# Altium integrated library Infineon_Microcontroller.IntLib: 721 symbols (part 14 of 66)
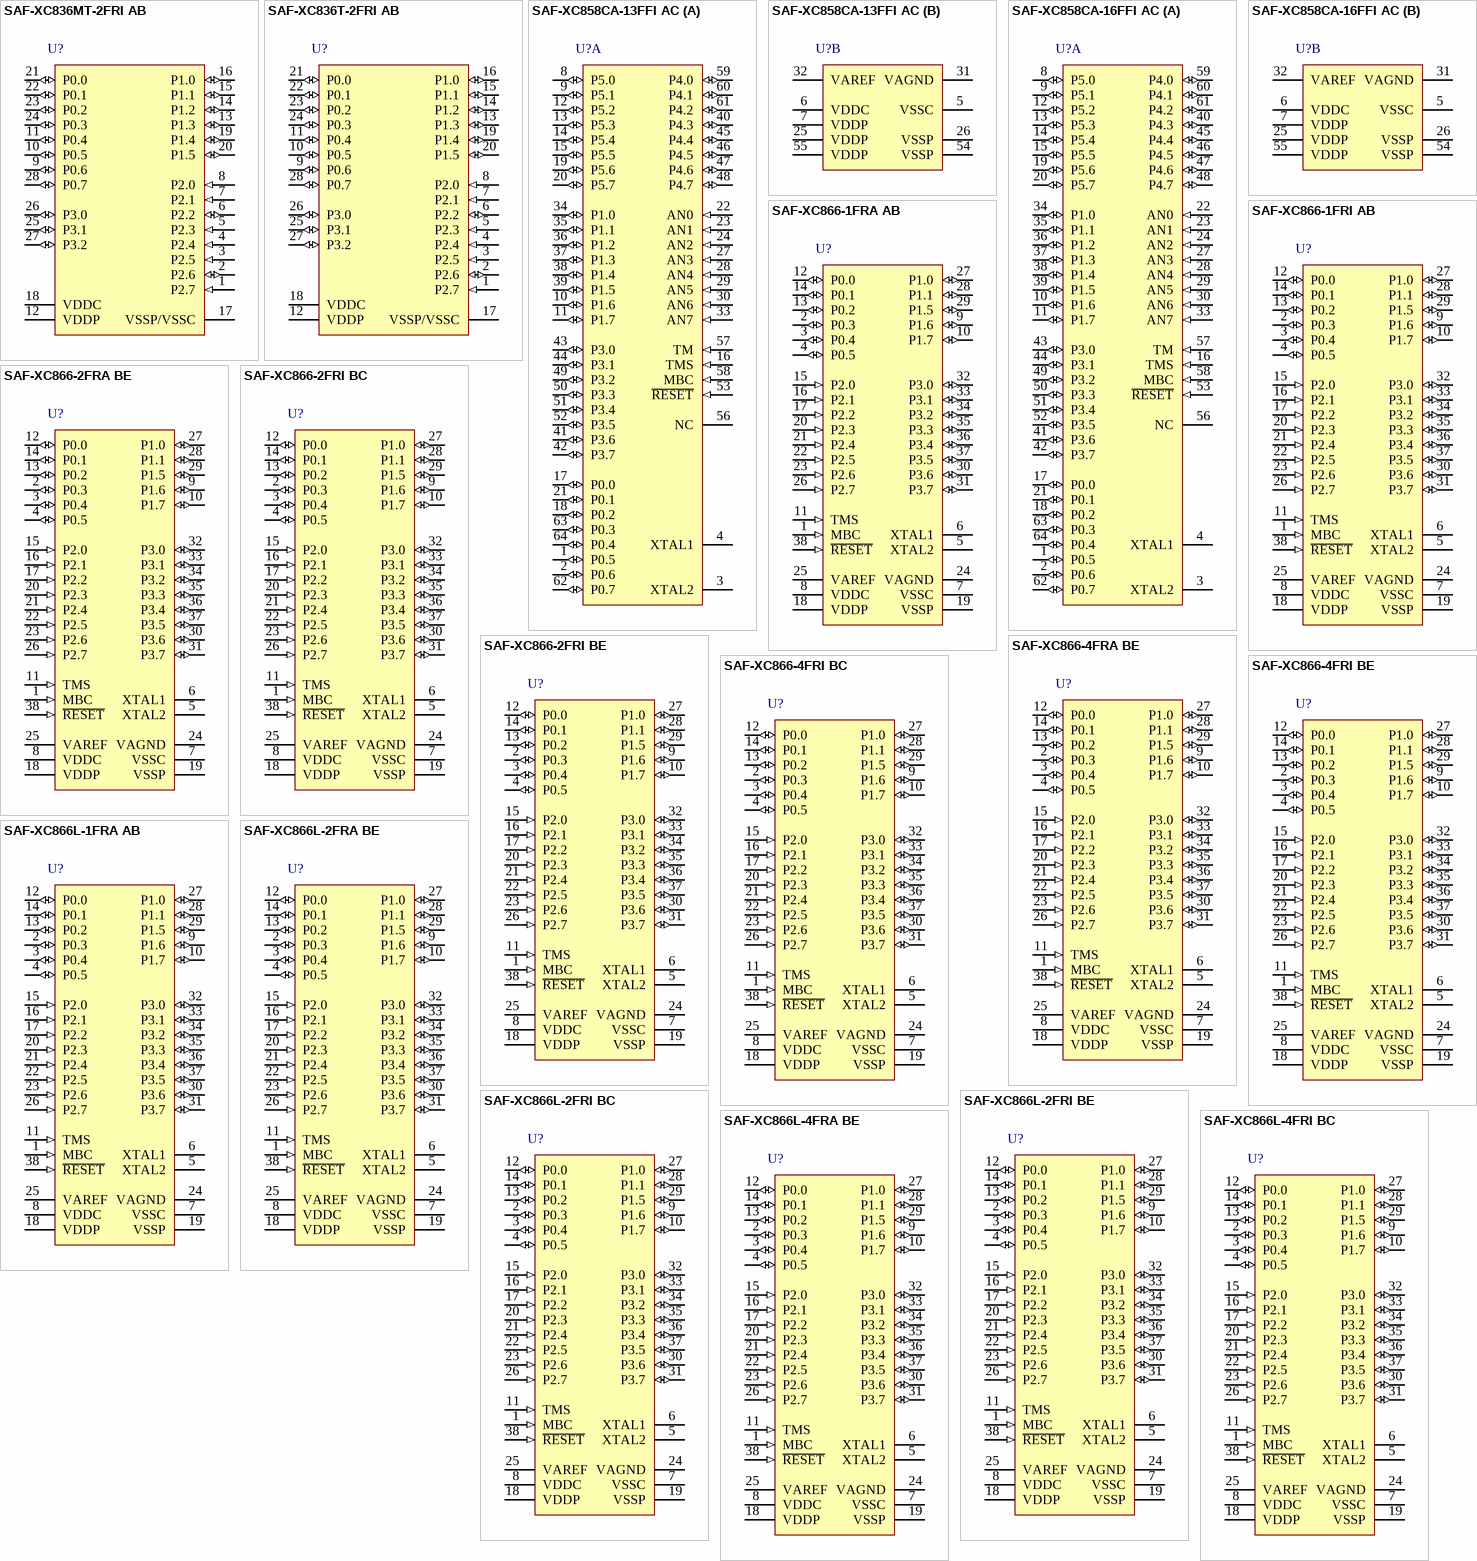
[diagram p131: symbols SAF-XC836MT-2FRI AB to SAF-XC866L-4FRI BC]

## SAF-XC866-4FRI BC
designator U?
26.67 MHz XC800 MCU with 16 KByte Program Memory, 0.75 KByte SRAM, -40 to 85 degC, PG-TSSOP-38-4, Green; Manufacturer: Infineon; PartNumber: SAF-XC866-4FRI BC; A / D input lines (incl. FADC): 8; CAN Nodes: 0; Green: TRUE; Packing: Reel; DatasheetVersion: Rev. 1.2; PackageVersion: V1.2, 10/2007; PackageReference: PG-TSSOP-38-4; PackageDescription: 38-Pin Plastic (Green) Thin Shrink Small Outline Package, Body 9.7 x 4.4 mm, Pitch 0.5 mm; Supplier 1: Digi-Key; Supplier Part Number 1: SAF-XC866-4FRIBCINTR-ND; Supplier 2: Digi-Key; Supplier Part Number 2: SAF-XC866-4FRIBCINCT-ND; Supplier 3: Digi-Key; Supplier Part Number 3: SAF-XC866-4FRIBCINDKR-ND; Halogen-free: FALSE; Max Clock Frequency: 26.67 MHz; Program Memory: 16 KByte; SRAM (incl. Cache): 0.75 KByte; Mounting Technology: Surface Mount; ComponentLink1Description: Manufacturer URL; ComponentLink1URL: http://www.infineon.com/; ComponentLink2Description: Datasheet; ComponentLink2URL: http://www.infineon.com/dgdl/XC866_ds_v12.pdf?folderId=db3a304412b407950112b408e8c90004&fileId=db3a304412b407950112b4198e7528a5; ComponentLink3Description: Package Specification; ComponentLink3URL: http://www.infineon.com/dgdl/XC866_ds_v12.pdf?folderId=db3a304412b407950112b408e8c90004&fileId=db3a304412b407950112b4198e7528a5&sId=db3a30433d956bc3013da013eedc2925
footprint INF-PG-TSSOP-38-4_N (SOP, 38-Leads, Body 9.7x4.4mm, Pitch 0.5mm, IPC Medium Density)
footprint INF-PG-TSSOP-38-4_L (SOP, 38-Leads, Body 9.7x4.4mm, Pitch 0.5mm, IPC High Density)
footprint INF-PG-TSSOP-38-4_M (SOP, 38-Leads, Body 9.7x4.4mm, Pitch 0.5mm, IPC Low Density)
pins: 1 MBC (in) "Monitor & BootStrap Loader Control", 2 P0.3 (io), 3 P0.4 (io), 4 P0.5 (io), 5 XTAL2 "External Oscillator Output (NC if not needed)", 6 XTAL1 "External Oscillator Input (NC if not needed)", 7 VSSC (power) "Core Supply Ground", 8 VDDC (power) "Core Supply Monitor (2.5 V)", 9 P1.6 (io), 10 P1.7 (io), 11 TMS (in) "Test Mode Select", 12 P0.0 (io), 13 P0.2 (io), 14 P0.1 (io), 15 P2.0 (in), 16 P2.1 (in), 17 P2.2 (in), 18 VDDP (power) "I/O Port Supply (3.3 V/5.0 V) Also used by EVR and analog modules.", 19 VSSP (power) "I/O Port Ground", 20 P2.3 (in), 21 P2.4 (in), 22 P2.5 (in), 23 P2.6 (in), 24 VAGND (power) "ADC Reference Ground", 25 VAREF (power) "ADC Reference Voltage", 26 P2.7 (in), 27 P1.0 (io), 28 P1.1 (io), 29 P1.5 (io), 30 P3.6 (io), 31 P3.7 (io), 32 P3.0 (io), 33 P3.1 (io), 34 P3.2 (io), 35 P3.3 (io), 36 P3.4 (io), 37 P3.5 (io), 38 ~{RESET} (in) "Reset Input"

## SAF-XC866-4FRI BE
designator U?
26.67 MHz XC800-Industrail MCU with 16 KByte Program Memory, 0.75 KByte SRAM, 5 V, -40 to 85 degC, PG-TSSOP-38, Reel, Green; Manufacturer: Infineon; PartNumber: SAF-XC866-4FRI BE; A / D input lines (incl. FADC): 8; CAN Nodes: 0; Digital I/O Lines: 27; DSP functionality (e.g MDU/MAC): FALSE; E2PROM Emulation (Data-Flash): TRUE; I/O Operation Voltages: 5 V; LIN BSL loader (for fast Flash programming): FALSE; Number of ADC Modules: 1; Power Modes: 4; Serial I/O Interfaces: 2; Timer / Counter: 3; Type of Memory: Flash; Type of Serial I/O Interfaces: UART(1), SSC(1); DatasheetVersion: Rev. 1.2; PackageVersion: V1.2, 10/2007; PackageReference: PG-TSSOP-38-4; PackageDescription: 38-Pin Plastic (Green) Thin Shrink Small Outline Package, Body 9.7 x 4.4 mm, Pitch 0.5 mm; Supplier 1: Digi-Key; Supplier Part Number 1: SAF-XC866-4FRI BE-ND; DMA Channels: 0; Green: TRUE; Halogen-free: TRUE; Instruction width [bits]: 8; Max Clock Frequency: 26.67 MHz; On-chip clock generation: TRUE; On-chip Voltage Regulator: TRUE; Oscillator Watchdog: TRUE; Packing: Reel; Program Memory: 16 KByte; SRAM (incl. Cache): 0.75 KByte; Timed I/O Pins (PWM-Ch,CAPCOM): 4; Watchdog Timer: TRUE; Mounting Technology: Surface Mount; ComponentLink1Description: Manufacturer URL; ComponentLink1URL: http://www.infineon.com/; ComponentLink2Description: Datasheet; ComponentLink2URL: http://www.infineon.com/dgdl/XC866_ds_v12.pdf?folderId=db3a304412b407950112b408e8c90004&fileId=db3a304412b407950112b4198e7528a5; ComponentLink3Description: Package Specification; ComponentLink3URL: http://www.infineon.com/dgdl/XC866_ds_v12.pdf?folderId=db3a304412b407950112b408e8c90004&fileId=db3a304412b407950112b4198e7528a5&sId=db3a30433d956bc3013da013eedc2925
footprint INF-PG-TSSOP-38-4_N (SOP, 38-Leads, Body 9.7x4.4mm, Pitch 0.5mm, IPC Medium Density)
footprint INF-PG-TSSOP-38-4_L (SOP, 38-Leads, Body 9.7x4.4mm, Pitch 0.5mm, IPC High Density)
footprint INF-PG-TSSOP-38-4_M (SOP, 38-Leads, Body 9.7x4.4mm, Pitch 0.5mm, IPC Low Density)
pins: 1 MBC (in) "Monitor & BootStrap Loader Control", 2 P0.3 (io), 3 P0.4 (io), 4 P0.5 (io), 5 XTAL2 "External Oscillator Output (NC if not needed)", 6 XTAL1 "External Oscillator Input (NC if not needed)", 7 VSSC (power) "Core Supply Ground", 8 VDDC (power) "Core Supply Monitor (2.5 V)", 9 P1.6 (io), 10 P1.7 (io), 11 TMS (in) "Test Mode Select", 12 P0.0 (io), 13 P0.2 (io), 14 P0.1 (io), 15 P2.0 (in), 16 P2.1 (in), 17 P2.2 (in), 18 VDDP (power) "I/O Port Supply (3.3 V/5.0 V) Also used by EVR and analog modules.", 19 VSSP (power) "I/O Port Ground", 20 P2.3 (in), 21 P2.4 (in), 22 P2.5 (in), 23 P2.6 (in), 24 VAGND (power) "ADC Reference Ground", 25 VAREF (power) "ADC Reference Voltage", 26 P2.7 (in), 27 P1.0 (io), 28 P1.1 (io), 29 P1.5 (io), 30 P3.6 (io), 31 P3.7 (io), 32 P3.0 (io), 33 P3.1 (io), 34 P3.2 (io), 35 P3.3 (io), 36 P3.4 (io), 37 P3.5 (io), 38 ~{RESET} (in) "Reset Input"

## SAF-XC866L-1FRA AB
designator U?
26.67 MHz XC800-Automotive MCU with 4 KByte Program Memory, 0.75 KByte SRAM, 5 V, 3.3 V, PG-TSSOP-38, Reel, Green; Manufacturer: Infineon; PartNumber: SAF-XC866L-1FRA AB; A / D input lines (incl. FADC): 8; CAN Nodes: 0; Digital I/O Lines: 27; DSP functionality (e.g MDU/MAC): FALSE; E2PROM Emulation (Data-Flash): TRUE; I/O Operation Voltages: 5 V 3.3 V; LIN BSL loader (for fast Flash programming): FALSE; Number of ADC Modules: 1; Power Modes: 4; Program Memory: 4 KByte; Serial I/O Interfaces: 2; Timer / Counter: 3; Type of Memory: Flash; Type of Serial I/O Interfaces: UART(1), SSC(1); DatasheetVersion: Rev. 1.2; PackageVersion: V1.2, 10/2007; PackageReference: PG-TSSOP-38-4; PackageDescription: 38-Pin Plastic (Green) Thin Shrink Small Outline Package, Body 9.7 x 4.4 mm, Pitch 0.5 mm; Supplier 1: Digi-Key; Supplier Part Number 1: SAF-XC866L-1FRA AB-ND; DMA Channels: 0; Green: TRUE; Halogen-free: available; Instruction width [bits]: 8; Max Clock Frequency: 26.67 MHz; On-chip clock generation: TRUE; On-chip Voltage Regulator: TRUE; Oscillator Watchdog: TRUE; Real Time Clock (RTC): FALSE; SRAM (incl. Cache): 0.75 KByte; Timed I/O Pins (PWM-Ch,CAPCOM): 4; Watchdog Timer: TRUE; Mounting Technology: Surface Mount; ComponentLink1Description: Manufacturer URL; ComponentLink1URL: http://www.infineon.com/; ComponentLink2Description: Datasheet; ComponentLink2URL: http://www.infineon.com/dgdl/XC866_ds_v12.pdf?folderId=db3a304412b407950112b408e8c90004&fileId=db3a304412b407950112b4198e7528a5; ComponentLink3Description: Package Specification; ComponentLink3URL: http://www.infineon.com/dgdl/XC866_ds_v12.pdf?folderId=db3a304412b407950112b408e8c90004&fileId=db3a304412b407950112b4198e7528a5&sId=db3a30433d956bc3013da013eedc2925
footprint INF-PG-TSSOP-38-4_N (SOP, 38-Leads, Body 9.7x4.4mm, Pitch 0.5mm, IPC Medium Density)
footprint INF-PG-TSSOP-38-4_L (SOP, 38-Leads, Body 9.7x4.4mm, Pitch 0.5mm, IPC High Density)
footprint INF-PG-TSSOP-38-4_M (SOP, 38-Leads, Body 9.7x4.4mm, Pitch 0.5mm, IPC Low Density)
pins: 1 MBC (in) "Monitor & BootStrap Loader Control", 2 P0.3 (io), 3 P0.4 (io), 4 P0.5 (io), 5 XTAL2 "External Oscillator Output (NC if not needed)", 6 XTAL1 "External Oscillator Input (NC if not needed)", 7 VSSC (power) "Core Supply Ground", 8 VDDC (power) "Core Supply Monitor (2.5 V)", 9 P1.6 (io), 10 P1.7 (io), 11 TMS (in) "Test Mode Select", 12 P0.0 (io), 13 P0.2 (io), 14 P0.1 (io), 15 P2.0 (in), 16 P2.1 (in), 17 P2.2 (in), 18 VDDP (power) "I/O Port Supply (3.3 V/5.0 V) Also used by EVR and analog modules.", 19 VSSP (power) "I/O Port Ground", 20 P2.3 (in), 21 P2.4 (in), 22 P2.5 (in), 23 P2.6 (in), 24 VAGND (power) "ADC Reference Ground", 25 VAREF (power) "ADC Reference Voltage", 26 P2.7 (in), 27 P1.0 (io), 28 P1.1 (io), 29 P1.5 (io), 30 P3.6 (io), 31 P3.7 (io), 32 P3.0 (io), 33 P3.1 (io), 34 P3.2 (io), 35 P3.3 (io), 36 P3.4 (io), 37 P3.5 (io), 38 ~{RESET} (in) "Reset Input"

## SAF-XC866L-2FRA BE
designator U?
26.67 MHz XC800-Automotive MCU with 8 KByte Program Memory, 0.75 KByte SRAM, 5 V, PG-TSSOP-38, Reel, Green; Manufacturer: Infineon; PartNumber: SAF-XC866L-2FRA BE; A / D input lines (incl. FADC): 8; CAN Nodes: 0; Digital I/O Lines: 27; DSP functionality (e.g MDU/MAC): FALSE; E2PROM Emulation (Data-Flash): TRUE; I/O Operation Voltages: 5 V; Number of ADC Modules: 1; Power Modes: 4; Program Memory: 8 KByte; Serial I/O Interfaces: 2; Timer / Counter: 3; Type of Memory: Flash; Type of Serial I/O Interfaces: UART(1), SSC(1); DatasheetVersion: Rev. 1.2; PackageVersion: V1.2, 10/2007; PackageReference: PG-TSSOP-38-4; PackageDescription: 38-Pin Plastic (Green) Thin Shrink Small Outline Package, Body 9.7 x 4.4 mm, Pitch 0.5 mm; Supplier 1: Digi-Key; Supplier Part Number 1: SAF-XC866L-2FRA BE-ND; DMA Channels: 0; Green: TRUE; Halogen-free: available; Instruction width [bits]: 8; LIN BSL loader (for fast Flash programming): TRUE; Max Clock Frequency: 26.67 MHz; On-chip clock generation: TRUE; On-chip Voltage Regulator: TRUE; Oscillator Watchdog: TRUE; Real Time Clock (RTC): FALSE; SRAM (incl. Cache): 0.75 KByte; Timed I/O Pins (PWM-Ch,CAPCOM): 4; Watchdog Timer: TRUE; Mounting Technology: Surface Mount; ComponentLink1Description: Manufacturer URL; ComponentLink1URL: http://www.infineon.com/; ComponentLink2Description: Datasheet; ComponentLink2URL: http://www.infineon.com/dgdl/XC866_ds_v12.pdf?folderId=db3a304412b407950112b408e8c90004&fileId=db3a304412b407950112b4198e7528a5; ComponentLink3Description: Package Specification; ComponentLink3URL: http://www.infineon.com/dgdl/XC866_ds_v12.pdf?folderId=db3a304412b407950112b408e8c90004&fileId=db3a304412b407950112b4198e7528a5&sId=db3a30433d956bc3013da013eedc2925
footprint INF-PG-TSSOP-38-4_N (SOP, 38-Leads, Body 9.7x4.4mm, Pitch 0.5mm, IPC Medium Density)
footprint INF-PG-TSSOP-38-4_L (SOP, 38-Leads, Body 9.7x4.4mm, Pitch 0.5mm, IPC High Density)
footprint INF-PG-TSSOP-38-4_M (SOP, 38-Leads, Body 9.7x4.4mm, Pitch 0.5mm, IPC Low Density)
pins: 1 MBC (in) "Monitor & BootStrap Loader Control", 2 P0.3 (io), 3 P0.4 (io), 4 P0.5 (io), 5 XTAL2 "External Oscillator Output (NC if not needed)", 6 XTAL1 "External Oscillator Input (NC if not needed)", 7 VSSC (power) "Core Supply Ground", 8 VDDC (power) "Core Supply Monitor (2.5 V)", 9 P1.6 (io), 10 P1.7 (io), 11 TMS (in) "Test Mode Select", 12 P0.0 (io), 13 P0.2 (io), 14 P0.1 (io), 15 P2.0 (in), 16 P2.1 (in), 17 P2.2 (in), 18 VDDP (power) "I/O Port Supply (3.3 V/5.0 V) Also used by EVR and analog modules.", 19 VSSP (power) "I/O Port Ground", 20 P2.3 (in), 21 P2.4 (in), 22 P2.5 (in), 23 P2.6 (in), 24 VAGND (power) "ADC Reference Ground", 25 VAREF (power) "ADC Reference Voltage", 26 P2.7 (in), 27 P1.0 (io), 28 P1.1 (io), 29 P1.5 (io), 30 P3.6 (io), 31 P3.7 (io), 32 P3.0 (io), 33 P3.1 (io), 34 P3.2 (io), 35 P3.3 (io), 36 P3.4 (io), 37 P3.5 (io), 38 ~{RESET} (in) "Reset Input"

## SAF-XC866L-2FRI BC
designator U?
26.67 MHz XC800 MCU with 8 KByte Program Memory, 0.75 KByte SRAM, -40 to 85 degC, PG-TSSOP-38-4, Green; Manufacturer: Infineon; PartNumber: SAF-XC866L-2FRI BC; A / D input lines (incl. FADC): 8; CAN Nodes: 0; Green: TRUE; Program Memory: 8 KByte; DatasheetVersion: Rev. 1.2; PackageVersion: V1.2, 10/2007; PackageReference: PG-TSSOP-38-4; PackageDescription: 38-Pin Plastic (Green) Thin Shrink Small Outline Package, Body 9.7 x 4.4 mm, Pitch 0.5 mm; Supplier 1: Digi-Key; Supplier Part Number 1: SAF-XC866L-2FRI BC-ND; Halogen-free: FALSE; Max Clock Frequency: 26.67 MHz; SRAM (incl. Cache): 0.75 KByte; Mounting Technology: Surface Mount; ComponentLink1Description: Manufacturer URL; ComponentLink1URL: http://www.infineon.com/; ComponentLink2Description: Datasheet; ComponentLink2URL: http://www.infineon.com/dgdl/XC866_ds_v12.pdf?folderId=db3a304412b407950112b408e8c90004&fileId=db3a304412b407950112b4198e7528a5; ComponentLink3Description: Package Specification; ComponentLink3URL: http://www.infineon.com/dgdl/XC866_ds_v12.pdf?folderId=db3a304412b407950112b408e8c90004&fileId=db3a304412b407950112b4198e7528a5&sId=db3a30433d956bc3013da013eedc2925
footprint INF-PG-TSSOP-38-4_N (SOP, 38-Leads, Body 9.7x4.4mm, Pitch 0.5mm, IPC Medium Density)
footprint INF-PG-TSSOP-38-4_L (SOP, 38-Leads, Body 9.7x4.4mm, Pitch 0.5mm, IPC High Density)
footprint INF-PG-TSSOP-38-4_M (SOP, 38-Leads, Body 9.7x4.4mm, Pitch 0.5mm, IPC Low Density)
pins: 1 MBC (in) "Monitor & BootStrap Loader Control", 2 P0.3 (io), 3 P0.4 (io), 4 P0.5 (io), 5 XTAL2 "External Oscillator Output (NC if not needed)", 6 XTAL1 "External Oscillator Input (NC if not needed)", 7 VSSC (power) "Core Supply Ground", 8 VDDC (power) "Core Supply Monitor (2.5 V)", 9 P1.6 (io), 10 P1.7 (io), 11 TMS (in) "Test Mode Select", 12 P0.0 (io), 13 P0.2 (io), 14 P0.1 (io), 15 P2.0 (in), 16 P2.1 (in), 17 P2.2 (in), 18 VDDP (power) "I/O Port Supply (3.3 V/5.0 V) Also used by EVR and analog modules.", 19 VSSP (power) "I/O Port Ground", 20 P2.3 (in), 21 P2.4 (in), 22 P2.5 (in), 23 P2.6 (in), 24 VAGND (power) "ADC Reference Ground", 25 VAREF (power) "ADC Reference Voltage", 26 P2.7 (in), 27 P1.0 (io), 28 P1.1 (io), 29 P1.5 (io), 30 P3.6 (io), 31 P3.7 (io), 32 P3.0 (io), 33 P3.1 (io), 34 P3.2 (io), 35 P3.3 (io), 36 P3.4 (io), 37 P3.5 (io), 38 ~{RESET} (in) "Reset Input"

## SAF-XC866L-2FRI BE
designator U?
26.67 MHz XC800-Industrail MCU with 8 KByte Program Memory, 0.75 KByte SRAM, 5 V, -40 to 85 degC, PG-TSSOP-38, Reel, Green; Manufacturer: Infineon; PartNumber: SAF-XC866L-2FRI BE; A / D input lines (incl. FADC): 8; CAN Nodes: 0; Digital I/O Lines: 27; DSP functionality (e.g MDU/MAC): FALSE; E2PROM Emulation (Data-Flash): TRUE; I/O Operation Voltages: 5 V; Number of ADC Modules: 1; Power Modes: 4; Program Memory: 8 KByte; Serial I/O Interfaces: 2; Timer / Counter: 3; Type of Memory: Flash; Type of Serial I/O Interfaces: UART(1), SSC(1); DatasheetVersion: Rev. 1.2; PackageVersion: V1.2, 10/2007; PackageReference: PG-TSSOP-38-4; PackageDescription: 38-Pin Plastic (Green) Thin Shrink Small Outline Package, Body 9.7 x 4.4 mm, Pitch 0.5 mm; Supplier 1: Digi-Key; Supplier Part Number 1: SAF-XC866L-2FRI BE-ND; DMA Channels: 0; Green: TRUE; Halogen-free: available; Instruction width [bits]: 8; LIN BSL loader (for fast Flash programming): TRUE; Max Clock Frequency: 26.67 MHz; On-chip clock generation: TRUE; On-chip Voltage Regulator: TRUE; Oscillator Watchdog: TRUE; SRAM (incl. Cache): 0.75 KByte; Timed I/O Pins (PWM-Ch,CAPCOM): 4; Watchdog Timer: TRUE; Mounting Technology: Surface Mount; ComponentLink1Description: Manufacturer URL; ComponentLink1URL: http://www.infineon.com/; ComponentLink2Description: Datasheet; ComponentLink2URL: http://www.infineon.com/dgdl/XC866_ds_v12.pdf?folderId=db3a304412b407950112b408e8c90004&fileId=db3a304412b407950112b4198e7528a5; ComponentLink3Description: Package Specification; ComponentLink3URL: http://www.infineon.com/dgdl/XC866_ds_v12.pdf?folderId=db3a304412b407950112b408e8c90004&fileId=db3a304412b407950112b4198e7528a5&sId=db3a30433d956bc3013da013eedc2925
footprint INF-PG-TSSOP-38-4_N (SOP, 38-Leads, Body 9.7x4.4mm, Pitch 0.5mm, IPC Medium Density)
footprint INF-PG-TSSOP-38-4_L (SOP, 38-Leads, Body 9.7x4.4mm, Pitch 0.5mm, IPC High Density)
footprint INF-PG-TSSOP-38-4_M (SOP, 38-Leads, Body 9.7x4.4mm, Pitch 0.5mm, IPC Low Density)
pins: 1 MBC (in) "Monitor & BootStrap Loader Control", 2 P0.3 (io), 3 P0.4 (io), 4 P0.5 (io), 5 XTAL2 "External Oscillator Output (NC if not needed)", 6 XTAL1 "External Oscillator Input (NC if not needed)", 7 VSSC (power) "Core Supply Ground", 8 VDDC (power) "Core Supply Monitor (2.5 V)", 9 P1.6 (io), 10 P1.7 (io), 11 TMS (in) "Test Mode Select", 12 P0.0 (io), 13 P0.2 (io), 14 P0.1 (io), 15 P2.0 (in), 16 P2.1 (in), 17 P2.2 (in), 18 VDDP (power) "I/O Port Supply (3.3 V/5.0 V) Also used by EVR and analog modules.", 19 VSSP (power) "I/O Port Ground", 20 P2.3 (in), 21 P2.4 (in), 22 P2.5 (in), 23 P2.6 (in), 24 VAGND (power) "ADC Reference Ground", 25 VAREF (power) "ADC Reference Voltage", 26 P2.7 (in), 27 P1.0 (io), 28 P1.1 (io), 29 P1.5 (io), 30 P3.6 (io), 31 P3.7 (io), 32 P3.0 (io), 33 P3.1 (io), 34 P3.2 (io), 35 P3.3 (io), 36 P3.4 (io), 37 P3.5 (io), 38 ~{RESET} (in) "Reset Input"

## SAF-XC866L-4FRA BE
designator U?
26.67 MHz XC800-Automotive MCU with 16 KByte Program Memory, 0.75 KByte SRAM, 5 V, PG-TSSOP-38, Reel, Green; Manufacturer: Infineon; PartNumber: SAF-XC866L-4FRA BE; A / D input lines (incl. FADC): 8; CAN Nodes: 0; Digital I/O Lines: 27; DSP functionality (e.g MDU/MAC): FALSE; E2PROM Emulation (Data-Flash): TRUE; I/O Operation Voltages: 5 V; Number of ADC Modules: 1; Power Modes: 4; Serial I/O Interfaces: 2; Timer / Counter: 3; Type of Memory: Flash; Type of Serial I/O Interfaces: UART(1), SSC(1); DatasheetVersion: Rev. 1.2; PackageVersion: V1.2, 10/2007; PackageReference: PG-TSSOP-38-4; PackageDescription: 38-Pin Plastic (Green) Thin Shrink Small Outline Package, Body 9.7 x 4.4 mm, Pitch 0.5 mm; Supplier 1: Digi-Key; Supplier Part Number 1: SAF-XC866L-4FRA BE-ND; DMA Channels: 0; Green: TRUE; Halogen-free: available; Instruction width [bits]: 8; LIN BSL loader (for fast Flash programming): TRUE; Max Clock Frequency: 26.67 MHz; On-chip clock generation: TRUE; On-chip Voltage Regulator: TRUE; Oscillator Watchdog: TRUE; Program Memory: 16 KByte; Real Time Clock (RTC): FALSE; SRAM (incl. Cache): 0.75 KByte; Timed I/O Pins (PWM-Ch,CAPCOM): 4; Watchdog Timer: TRUE; Mounting Technology: Surface Mount; ComponentLink1Description: Manufacturer URL; ComponentLink1URL: http://www.infineon.com/; ComponentLink2Description: Datasheet; ComponentLink2URL: http://www.infineon.com/dgdl/XC866_ds_v12.pdf?folderId=db3a304412b407950112b408e8c90004&fileId=db3a304412b407950112b4198e7528a5; ComponentLink3Description: Package Specification; ComponentLink3URL: http://www.infineon.com/dgdl/XC866_ds_v12.pdf?folderId=db3a304412b407950112b408e8c90004&fileId=db3a304412b407950112b4198e7528a5&sId=db3a30433d956bc3013da013eedc2925
footprint INF-PG-TSSOP-38-4_N (SOP, 38-Leads, Body 9.7x4.4mm, Pitch 0.5mm, IPC Medium Density)
footprint INF-PG-TSSOP-38-4_L (SOP, 38-Leads, Body 9.7x4.4mm, Pitch 0.5mm, IPC High Density)
footprint INF-PG-TSSOP-38-4_M (SOP, 38-Leads, Body 9.7x4.4mm, Pitch 0.5mm, IPC Low Density)
pins: 1 MBC (in) "Monitor & BootStrap Loader Control", 2 P0.3 (io), 3 P0.4 (io), 4 P0.5 (io), 5 XTAL2 "External Oscillator Output (NC if not needed)", 6 XTAL1 "External Oscillator Input (NC if not needed)", 7 VSSC (power) "Core Supply Ground", 8 VDDC (power) "Core Supply Monitor (2.5 V)", 9 P1.6 (io), 10 P1.7 (io), 11 TMS (in) "Test Mode Select", 12 P0.0 (io), 13 P0.2 (io), 14 P0.1 (io), 15 P2.0 (in), 16 P2.1 (in), 17 P2.2 (in), 18 VDDP (power) "I/O Port Supply (3.3 V/5.0 V) Also used by EVR and analog modules.", 19 VSSP (power) "I/O Port Ground", 20 P2.3 (in), 21 P2.4 (in), 22 P2.5 (in), 23 P2.6 (in), 24 VAGND (power) "ADC Reference Ground", 25 VAREF (power) "ADC Reference Voltage", 26 P2.7 (in), 27 P1.0 (io), 28 P1.1 (io), 29 P1.5 (io), 30 P3.6 (io), 31 P3.7 (io), 32 P3.0 (io), 33 P3.1 (io), 34 P3.2 (io), 35 P3.3 (io), 36 P3.4 (io), 37 P3.5 (io), 38 ~{RESET} (in) "Reset Input"

## SAF-XC866L-4FRI BC
designator U?
26.67 MHz XC800 MCU with 16 KByte Program Memory, 0.75 KByte SRAM, -40 to 85 degC, PG-TSSOP-38-4, Green; Manufacturer: Infineon; PartNumber: SAF-XC866L-4FRI BC; A / D input lines (incl. FADC): 8; CAN Nodes: 0; Green: TRUE; DatasheetVersion: Rev. 1.2; PackageVersion: V1.2, 10/2007; PackageReference: PG-TSSOP-38-4; PackageDescription: 38-Pin Plastic (Green) Thin Shrink Small Outline Package, Body 9.7 x 4.4 mm, Pitch 0.5 mm; Supplier 1: Digi-Key; Supplier Part Number 1: SAF-XC866L-4FRI BC-ND; Halogen-free: FALSE; Max Clock Frequency: 26.67 MHz; Program Memory: 16 KByte; SRAM (incl. Cache): 0.75 KByte; Mounting Technology: Surface Mount; ComponentLink1Description: Manufacturer URL; ComponentLink1URL: http://www.infineon.com/; ComponentLink2Description: Datasheet; ComponentLink2URL: http://www.infineon.com/dgdl/XC866_ds_v12.pdf?folderId=db3a304412b407950112b408e8c90004&fileId=db3a304412b407950112b4198e7528a5; ComponentLink3Description: Package Specification; ComponentLink3URL: http://www.infineon.com/dgdl/XC866_ds_v12.pdf?folderId=db3a304412b407950112b408e8c90004&fileId=db3a304412b407950112b4198e7528a5&sId=db3a30433d956bc3013da013eedc2925
footprint INF-PG-TSSOP-38-4_N (SOP, 38-Leads, Body 9.7x4.4mm, Pitch 0.5mm, IPC Medium Density)
footprint INF-PG-TSSOP-38-4_L (SOP, 38-Leads, Body 9.7x4.4mm, Pitch 0.5mm, IPC High Density)
footprint INF-PG-TSSOP-38-4_M (SOP, 38-Leads, Body 9.7x4.4mm, Pitch 0.5mm, IPC Low Density)
pins: 1 MBC (in) "Monitor & BootStrap Loader Control", 2 P0.3 (io), 3 P0.4 (io), 4 P0.5 (io), 5 XTAL2 "External Oscillator Output (NC if not needed)", 6 XTAL1 "External Oscillator Input (NC if not needed)", 7 VSSC (power) "Core Supply Ground", 8 VDDC (power) "Core Supply Monitor (2.5 V)", 9 P1.6 (io), 10 P1.7 (io), 11 TMS (in) "Test Mode Select", 12 P0.0 (io), 13 P0.2 (io), 14 P0.1 (io), 15 P2.0 (in), 16 P2.1 (in), 17 P2.2 (in), 18 VDDP (power) "I/O Port Supply (3.3 V/5.0 V) Also used by EVR and analog modules.", 19 VSSP (power) "I/O Port Ground", 20 P2.3 (in), 21 P2.4 (in), 22 P2.5 (in), 23 P2.6 (in), 24 VAGND (power) "ADC Reference Ground", 25 VAREF (power) "ADC Reference Voltage", 26 P2.7 (in), 27 P1.0 (io), 28 P1.1 (io), 29 P1.5 (io), 30 P3.6 (io), 31 P3.7 (io), 32 P3.0 (io), 33 P3.1 (io), 34 P3.2 (io), 35 P3.3 (io), 36 P3.4 (io), 37 P3.5 (io), 38 ~{RESET} (in) "Reset Input"

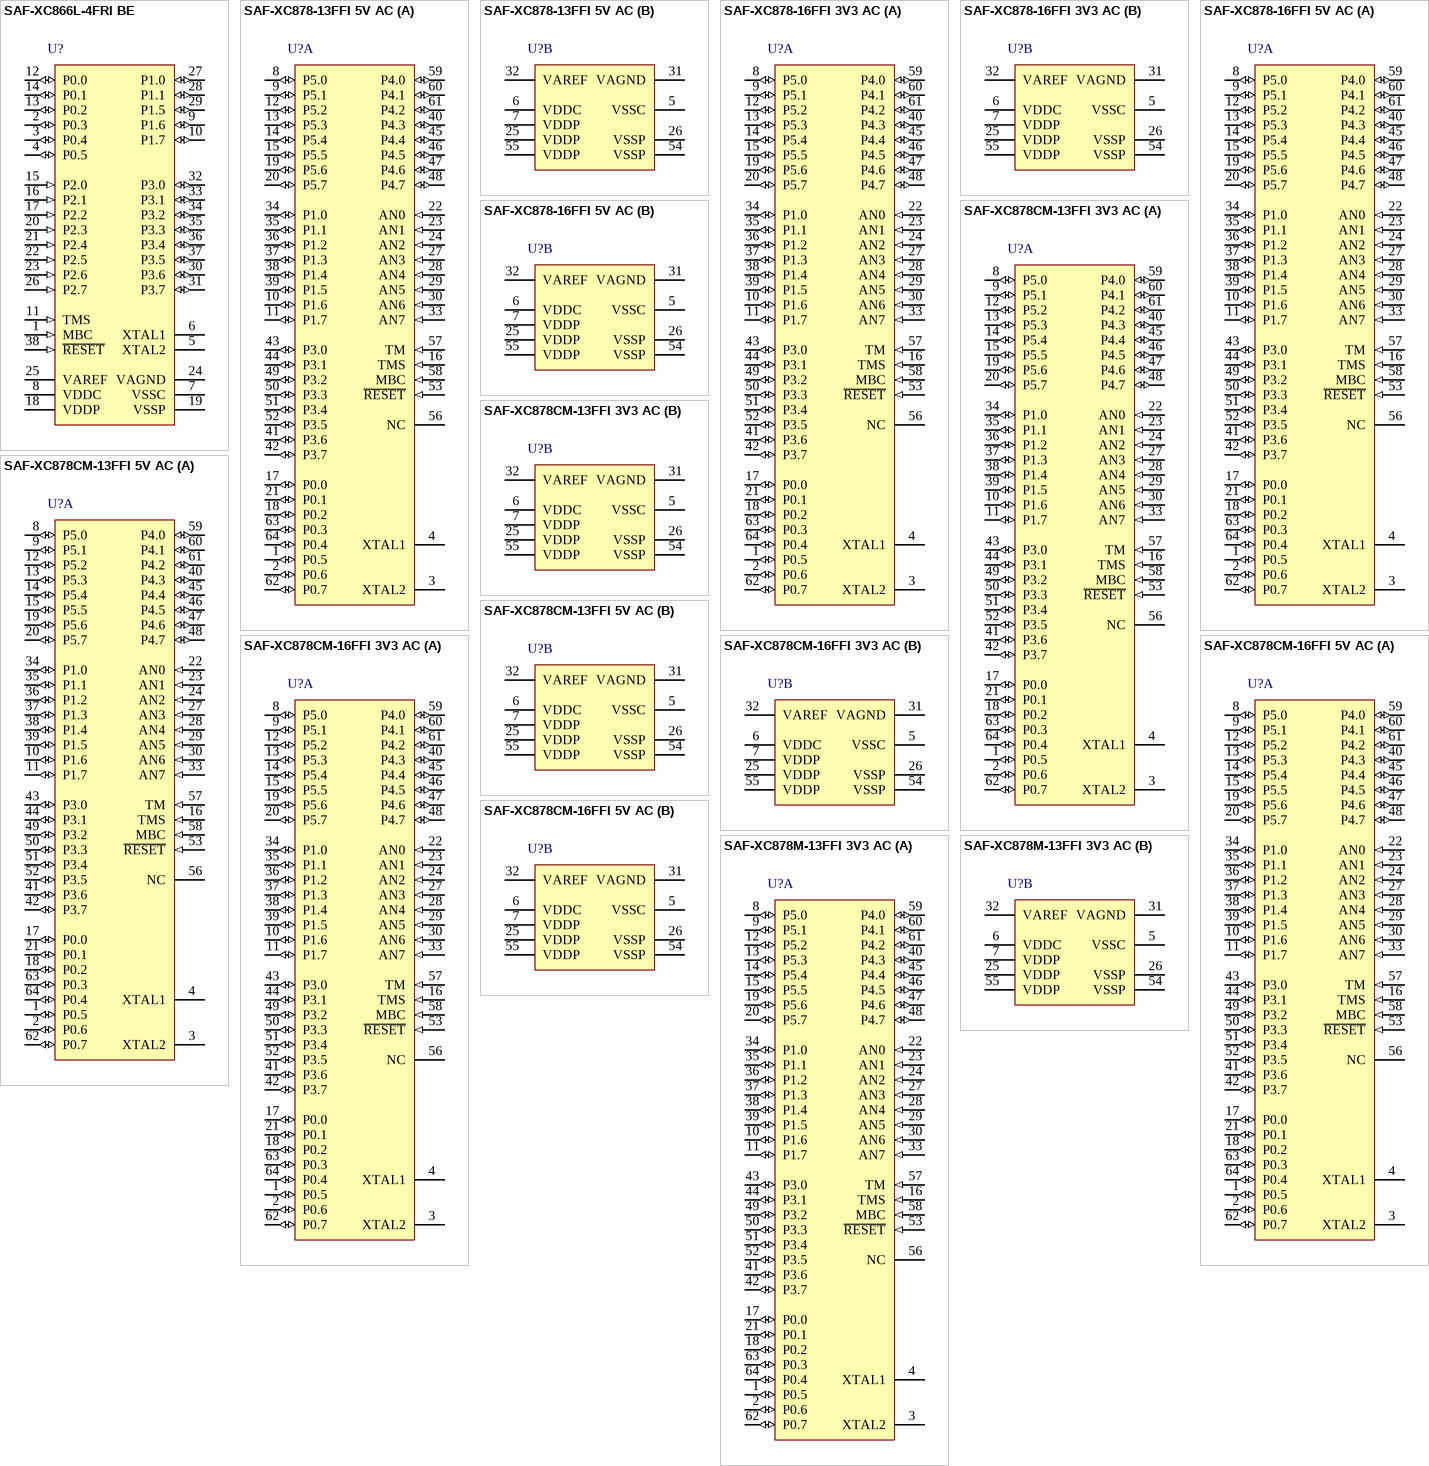
[diagram p23: symbols SAF-XC866L-4FRI BE to SAF-XC878M-13FFI 3V3 AC]

## SAF-XC866L-4FRI BE
designator U?
26.67 MHz XC800-Industrail MCU with 16 KByte Program Memory, 0.75 KByte SRAM, 5 V, -40 to 85 degC, PG-TSSOP-38, Reel, Green; Manufacturer: Infineon; PartNumber: SAF-XC866L-4FRI BE; A / D input lines (incl. FADC): 8; CAN Nodes: 0; Digital I/O Lines: 27; DSP functionality (e.g MDU/MAC): FALSE; E2PROM Emulation (Data-Flash): TRUE; I/O Operation Voltages: 5 V; Number of ADC Modules: 1; Power Modes: 4; Serial I/O Interfaces: 2; Timer / Counter: 3; Type of Memory: Flash; Type of Serial I/O Interfaces: UART(1), SSC(1); DatasheetVersion: Rev. 1.2; PackageVersion: V1.2, 10/2007; PackageReference: PG-TSSOP-38-4; PackageDescription: 38-Pin Plastic (Green) Thin Shrink Small Outline Package, Body 9.7 x 4.4 mm, Pitch 0.5 mm; Supplier 1: Digi-Key; Supplier Part Number 1: SAF-XC866L-4FRI BE-ND; DMA Channels: 0; Green: TRUE; Halogen-free: available; Instruction width [bits]: 8; LIN BSL loader (for fast Flash programming): TRUE; Max Clock Frequency: 26.67 MHz; On-chip clock generation: TRUE; On-chip Voltage Regulator: TRUE; Oscillator Watchdog: TRUE; Program Memory: 16 KByte; SRAM (incl. Cache): 0.75 KByte; Timed I/O Pins (PWM-Ch,CAPCOM): 4; Watchdog Timer: TRUE; Mounting Technology: Surface Mount; ComponentLink1Description: Manufacturer URL; ComponentLink1URL: http://www.infineon.com/; ComponentLink2Description: Datasheet; ComponentLink2URL: http://www.infineon.com/dgdl/XC866_ds_v12.pdf?folderId=db3a304412b407950112b408e8c90004&fileId=db3a304412b407950112b4198e7528a5; ComponentLink3Description: Package Specification; ComponentLink3URL: http://www.infineon.com/dgdl/XC866_ds_v12.pdf?folderId=db3a304412b407950112b408e8c90004&fileId=db3a304412b407950112b4198e7528a5&sId=db3a30433d956bc3013da013eedc2925
footprint INF-PG-TSSOP-38-4_N (SOP, 38-Leads, Body 9.7x4.4mm, Pitch 0.5mm, IPC Medium Density)
footprint INF-PG-TSSOP-38-4_L (SOP, 38-Leads, Body 9.7x4.4mm, Pitch 0.5mm, IPC High Density)
footprint INF-PG-TSSOP-38-4_M (SOP, 38-Leads, Body 9.7x4.4mm, Pitch 0.5mm, IPC Low Density)
pins: 1 MBC (in) "Monitor & BootStrap Loader Control", 2 P0.3 (io), 3 P0.4 (io), 4 P0.5 (io), 5 XTAL2 "External Oscillator Output (NC if not needed)", 6 XTAL1 "External Oscillator Input (NC if not needed)", 7 VSSC (power) "Core Supply Ground", 8 VDDC (power) "Core Supply Monitor (2.5 V)", 9 P1.6 (io), 10 P1.7 (io), 11 TMS (in) "Test Mode Select", 12 P0.0 (io), 13 P0.2 (io), 14 P0.1 (io), 15 P2.0 (in), 16 P2.1 (in), 17 P2.2 (in), 18 VDDP (power) "I/O Port Supply (3.3 V/5.0 V) Also used by EVR and analog modules.", 19 VSSP (power) "I/O Port Ground", 20 P2.3 (in), 21 P2.4 (in), 22 P2.5 (in), 23 P2.6 (in), 24 VAGND (power) "ADC Reference Ground", 25 VAREF (power) "ADC Reference Voltage", 26 P2.7 (in), 27 P1.0 (io), 28 P1.1 (io), 29 P1.5 (io), 30 P3.6 (io), 31 P3.7 (io), 32 P3.0 (io), 33 P3.1 (io), 34 P3.2 (io), 35 P3.3 (io), 36 P3.4 (io), 37 P3.5 (io), 38 ~{RESET} (in) "Reset Input"

## SAF-XC878-13FFI 5V AC
designator U?
26.7 MHz XC800-Industrail MCU with 52 KByte Program Memory, 3 KByte SRAM, 5 V, -40 to 85 degC, PG-LQFP-64, Reel, Green; Manufacturer: Infineon; PartNumber: SAF-XC878-13FFI 5V AC; A / D input lines (incl. FADC): 8; CAN Nodes: 0; Digital I/O Lines: 40; DSP functionality (e.g MDU/MAC): FALSE; E2PROM Emulation (Data-Flash): TRUE; I/O Operation Voltages: 5 V; LIN BSL loader (for fast Flash programming): FALSE; Number of ADC Modules: 1; Power Modes: 4; Serial I/O Interfaces: 3; SRAM (incl. Cache): 3 KByte; Timed I/O Pins (PWM-Ch,CAPCOM): 14; Type of Memory: Flash; Type of Serial I/O Interfaces: UART(2), SCC(1); DatasheetVersion: Rev. 1.5; PackageVersion: Jun-08; PackageReference: PG-LQFP-64-4; PackageDescription: 64-Pin Plastic (Green) Low Profile Quad Flat Package, 10 x 10 mm Body, 0.5 mm Pitch; Supplier 1: Digi-Key; Supplier Part Number 1: SAF-XC878-13FFI 5V AC-ND; DMA Channels: 0; Green: TRUE; Halogen-free: TRUE; Instruction width [bits]: 8; Max Clock Frequency: 26.7 MHz; On-chip clock generation: TRUE; On-chip Voltage Regulator: TRUE; Oscillator Watchdog: TRUE; Packing: Reel; Program Memory: 52 KByte; Timer / Counter: 4; Watchdog Timer: TRUE; Mounting Technology: Surface Mount; ComponentLink1Description: Manufacturer URL; ComponentLink1URL: http://www.infineon.com/; ComponentLink2Description: Datasheet; ComponentLink2URL: http://www.infineon.com/dgdl/Microcontroller-XC87x-Data-Sheet-V15-infineon.pdf?folderId=db3a304412b407950112b40c497b0af6&fileId=db3a30432239cccd01231293d56908b1; ComponentLink3Description: Package Specification; ComponentLink3URL: http://www.infineon.com/dgdl/PG-LQFP-64-4%2C-5%2C-13-Package_Overview.pdf?folderId=db3a30431a5c32f2011a8ca6115b5cf2&fileId=db3a30431a5c32f2011a8cb1baf95d11
footprint INF-PG-LQFP-64-4_N (QFP, 64-Leads, Body 10x10mm, Pitch 0.5mm, IPC Medium Density)
footprint INF-PG-LQFP-64-4_L (QFP, 64-Leads, Body 10x10mm, Pitch 0.5mm, IPC High Density)
footprint INF-PG-LQFP-64-4_M (QFP, 64-Leads, Body 10x10mm, Pitch 0.5mm, IPC Low Density)
part A pins: 1 P0.5 (io), 2 P0.6 (io), 3 XTAL2 "External Oscillator Output", 4 XTAL1 "External Oscillator Input", 8 P5.0 (io), 9 P5.1 (io), 10 P1.6 (io), 11 P1.7 (io), 12 P5.2 (io), 13 P5.3 (io), 14 P5.4 (io), 15 P5.5 (io), 16 TMS (in) "JTAG Test Mode Select", 17 P0.0 (io), 18 P0.2 (io), 19 P5.6 (io), 20 P5.7 (io), 21 P0.1 (io), 22 AN0 (in) "Analog Input 0", 23 AN1 (in) "Analog Input 1", 24 AN2 (in) "Analog Input 2", 27 AN3 (in) "Analog Input 3", 28 AN4 (in) "Analog Input 4", 29 AN5 (in) "Analog Input 5", 30 AN6 (in) "Analog Input 6", 33 AN7 (in) "Analog Input 7", 34 P1.0 (io), 35 P1.1 (io), 36 P1.2 (io), 37 P1.3 (io), 38 P1.4 (io), 39 P1.5 (io), 40 P4.3 (io), 41 P3.6 (io), 42 P3.7 (io), 43 P3.0 (io), 44 P3.1 (io), 45 P4.4 (io), 46 P4.5 (io), 47 P4.6 (io), 48 P4.7 (io), 49 P3.2 (io), 50 P3.3 (io), 51 P3.4 (io), 52 P3.5 (io), 53 ~{RESET} (in) "Reset Input", 56 NC "No Connection", 57 TM (in) "Test Mode", 58 MBC (in) "Monitor & BootStrap Loader Control", 59 P4.0 (io), 60 P4.1 (io), 61 P4.2 (io), 62 P0.7 (io), 63 P0.3 (io), 64 P0.4 (io)
part B pins: 5 VSSC (power) "Core Supply Ground", 6 VDDC (power) "Core Supply Monitor (2.5 V)", 7 VDDP (power) "I/O Port Supply", 25 VDDP (power) "I/O Port Supply", 26 VSSP (power) "I/O Ground", 31 VAGND (power) "ADC Reference Ground", 32 VAREF (power) "ADC Reference Voltage", 54 VSSP (power) "I/O Ground", 55 VDDP (power) "I/O Port Supply"

## SAF-XC878-16FFI 3V3 AC
designator U?
26.7 MHz XC800-Industrail MCU with 64 KByte Program Memory, 3 KByte SRAM, 3.3 V, -40 to 85 degC, PG-LQFP-64, Reel, Green; Manufacturer: Infineon; PartNumber: SAF-XC878-16FFI 3V3 AC; A / D input lines (incl. FADC): 8; CAN Nodes: 0; Digital I/O Lines: 40; DSP functionality (e.g MDU/MAC): FALSE; E2PROM Emulation (Data-Flash): TRUE; I/O Operation Voltages: 3.3 V; LIN BSL loader (for fast Flash programming): FALSE; Number of ADC Modules: 1; Power Modes: 4; Serial I/O Interfaces: 3; SRAM (incl. Cache): 3 KByte; Timed I/O Pins (PWM-Ch,CAPCOM): 14; Type of Memory: Flash; Type of Serial I/O Interfaces: UART(2), SCC(1); DatasheetVersion: Rev. 1.5; PackageVersion: Jun-08; PackageReference: PG-LQFP-64-4; PackageDescription: 64-Pin Plastic (Green) Low Profile Quad Flat Package, 10 x 10 mm Body, 0.5 mm Pitch; Supplier 1: Digi-Key; Supplier Part Number 1: SAF-XC878-16FFI 3V3 AC-ND; DMA Channels: 0; Green: TRUE; Halogen-free: FLASE; Instruction width [bits]: 8; Max Clock Frequency: 26.7 MHz; On-chip clock generation: TRUE; On-chip Voltage Regulator: TRUE; Oscillator Watchdog: TRUE; Program Memory: 64 KByte; Timer / Counter: 4; Watchdog Timer: TRUE; Mounting Technology: Surface Mount; ComponentLink1Description: Manufacturer URL; ComponentLink1URL: http://www.infineon.com/; ComponentLink2Description: Datasheet; ComponentLink2URL: http://www.infineon.com/dgdl/Microcontroller-XC87x-Data-Sheet-V15-infineon.pdf?folderId=db3a304412b407950112b40c497b0af6&fileId=db3a30432239cccd01231293d56908b1; ComponentLink3Description: Package Specification; ComponentLink3URL: http://www.infineon.com/dgdl/PG-LQFP-64-4%2C-5%2C-13-Package_Overview.pdf?folderId=db3a30431a5c32f2011a8ca6115b5cf2&fileId=db3a30431a5c32f2011a8cb1baf95d11
footprint INF-PG-LQFP-64-4_N (QFP, 64-Leads, Body 10x10mm, Pitch 0.5mm, IPC Medium Density)
footprint INF-PG-LQFP-64-4_L (QFP, 64-Leads, Body 10x10mm, Pitch 0.5mm, IPC High Density)
footprint INF-PG-LQFP-64-4_M (QFP, 64-Leads, Body 10x10mm, Pitch 0.5mm, IPC Low Density)
part A pins: 1 P0.5 (io), 2 P0.6 (io), 3 XTAL2 "External Oscillator Output", 4 XTAL1 "External Oscillator Input", 8 P5.0 (io), 9 P5.1 (io), 10 P1.6 (io), 11 P1.7 (io), 12 P5.2 (io), 13 P5.3 (io), 14 P5.4 (io), 15 P5.5 (io), 16 TMS (in) "JTAG Test Mode Select", 17 P0.0 (io), 18 P0.2 (io), 19 P5.6 (io), 20 P5.7 (io), 21 P0.1 (io), 22 AN0 (in) "Analog Input 0", 23 AN1 (in) "Analog Input 1", 24 AN2 (in) "Analog Input 2", 27 AN3 (in) "Analog Input 3", 28 AN4 (in) "Analog Input 4", 29 AN5 (in) "Analog Input 5", 30 AN6 (in) "Analog Input 6", 33 AN7 (in) "Analog Input 7", 34 P1.0 (io), 35 P1.1 (io), 36 P1.2 (io), 37 P1.3 (io), 38 P1.4 (io), 39 P1.5 (io), 40 P4.3 (io), 41 P3.6 (io), 42 P3.7 (io), 43 P3.0 (io), 44 P3.1 (io), 45 P4.4 (io), 46 P4.5 (io), 47 P4.6 (io), 48 P4.7 (io), 49 P3.2 (io), 50 P3.3 (io), 51 P3.4 (io), 52 P3.5 (io), 53 ~{RESET} (in) "Reset Input", 56 NC "No Connection", 57 TM (in) "Test Mode", 58 MBC (in) "Monitor & BootStrap Loader Control", 59 P4.0 (io), 60 P4.1 (io), 61 P4.2 (io), 62 P0.7 (io), 63 P0.3 (io), 64 P0.4 (io)
part B pins: 5 VSSC (power) "Core Supply Ground", 6 VDDC (power) "Core Supply Monitor (2.5 V)", 7 VDDP (power) "I/O Port Supply", 25 VDDP (power) "I/O Port Supply", 26 VSSP (power) "I/O Ground", 31 VAGND (power) "ADC Reference Ground", 32 VAREF (power) "ADC Reference Voltage", 54 VSSP (power) "I/O Ground", 55 VDDP (power) "I/O Port Supply"

## SAF-XC878-16FFI 5V AC
designator U?
26.7 MHz XC800-Industrail MCU with 64 KByte Program Memory, 3 KByte SRAM, 5 V, -40 to 85 degC, PG-LQFP-64, Reel, Green; Manufacturer: Infineon; PartNumber: SAF-XC878-16FFI 5V AC; A / D input lines (incl. FADC): 8; CAN Nodes: 0; Digital I/O Lines: 40; DSP functionality (e.g MDU/MAC): FALSE; E2PROM Emulation (Data-Flash): TRUE; I/O Operation Voltages: 5 V; LIN BSL loader (for fast Flash programming): FALSE; Number of ADC Modules: 1; Power Modes: 4; Serial I/O Interfaces: 3; SRAM (incl. Cache): 3 KByte; Timed I/O Pins (PWM-Ch,CAPCOM): 14; Type of Memory: Flash; Type of Serial I/O Interfaces: UART(2), SCC(1); DatasheetVersion: Rev. 1.5; PackageVersion: Jun-08; PackageReference: PG-LQFP-64-4; PackageDescription: 64-Pin Plastic (Green) Low Profile Quad Flat Package, 10 x 10 mm Body, 0.5 mm Pitch; Supplier 1: Digi-Key; Supplier Part Number 1: SAF-XC878-16FFI 5V AC-ND; DMA Channels: 0; Green: TRUE; Halogen-free: TRUE; Instruction width [bits]: 8; Max Clock Frequency: 26.7 MHz; On-chip clock generation: TRUE; On-chip Voltage Regulator: TRUE; Oscillator Watchdog: TRUE; Packing: Reel; Program Memory: 64 KByte; Timer / Counter: 4; Watchdog Timer: TRUE; Mounting Technology: Surface Mount; ComponentLink1Description: Manufacturer URL; ComponentLink1URL: http://www.infineon.com/; ComponentLink2Description: Datasheet; ComponentLink2URL: http://www.infineon.com/dgdl/Microcontroller-XC87x-Data-Sheet-V15-infineon.pdf?folderId=db3a304412b407950112b40c497b0af6&fileId=db3a30432239cccd01231293d56908b1; ComponentLink3Description: Package Specification; ComponentLink3URL: http://www.infineon.com/dgdl/PG-LQFP-64-4%2C-5%2C-13-Package_Overview.pdf?folderId=db3a30431a5c32f2011a8ca6115b5cf2&fileId=db3a30431a5c32f2011a8cb1baf95d11
footprint INF-PG-LQFP-64-4_N (QFP, 64-Leads, Body 10x10mm, Pitch 0.5mm, IPC Medium Density)
footprint INF-PG-LQFP-64-4_L (QFP, 64-Leads, Body 10x10mm, Pitch 0.5mm, IPC High Density)
footprint INF-PG-LQFP-64-4_M (QFP, 64-Leads, Body 10x10mm, Pitch 0.5mm, IPC Low Density)
part A pins: 1 P0.5 (io), 2 P0.6 (io), 3 XTAL2 "External Oscillator Output", 4 XTAL1 "External Oscillator Input", 8 P5.0 (io), 9 P5.1 (io), 10 P1.6 (io), 11 P1.7 (io), 12 P5.2 (io), 13 P5.3 (io), 14 P5.4 (io), 15 P5.5 (io), 16 TMS (in) "JTAG Test Mode Select", 17 P0.0 (io), 18 P0.2 (io), 19 P5.6 (io), 20 P5.7 (io), 21 P0.1 (io), 22 AN0 (in) "Analog Input 0", 23 AN1 (in) "Analog Input 1", 24 AN2 (in) "Analog Input 2", 27 AN3 (in) "Analog Input 3", 28 AN4 (in) "Analog Input 4", 29 AN5 (in) "Analog Input 5", 30 AN6 (in) "Analog Input 6", 33 AN7 (in) "Analog Input 7", 34 P1.0 (io), 35 P1.1 (io), 36 P1.2 (io), 37 P1.3 (io), 38 P1.4 (io), 39 P1.5 (io), 40 P4.3 (io), 41 P3.6 (io), 42 P3.7 (io), 43 P3.0 (io), 44 P3.1 (io), 45 P4.4 (io), 46 P4.5 (io), 47 P4.6 (io), 48 P4.7 (io), 49 P3.2 (io), 50 P3.3 (io), 51 P3.4 (io), 52 P3.5 (io), 53 ~{RESET} (in) "Reset Input", 56 NC "No Connection", 57 TM (in) "Test Mode", 58 MBC (in) "Monitor & BootStrap Loader Control", 59 P4.0 (io), 60 P4.1 (io), 61 P4.2 (io), 62 P0.7 (io), 63 P0.3 (io), 64 P0.4 (io)
part B pins: 5 VSSC (power) "Core Supply Ground", 6 VDDC (power) "Core Supply Monitor (2.5 V)", 7 VDDP (power) "I/O Port Supply", 25 VDDP (power) "I/O Port Supply", 26 VSSP (power) "I/O Ground", 31 VAGND (power) "ADC Reference Ground", 32 VAREF (power) "ADC Reference Voltage", 54 VSSP (power) "I/O Ground", 55 VDDP (power) "I/O Port Supply"

## SAF-XC878CM-13FFI 3V3 AC
designator U?
26.7 MHz XC800-Industrail MCU with 52 KByte Program Memory, 3 KByte SRAM, 3.3 V, -40 to 85 degC, PG-LQFP-64, Reel, Green; Manufacturer: Infineon; PartNumber: SAF-XC878CM-13FFI 3V3 AC; A / D input lines (incl. FADC): 8; CAN Nodes: 2; Digital I/O Lines: 40; DMA Channels: 0; DSP functionality (e.g MDU/MAC): TRUE; I/O Operation Voltages: 3.3 V; LIN BSL loader (for fast Flash programming): FALSE; Number of ADC Modules: 1; Power Modes: 4; Serial I/O Interfaces: 3; SRAM (incl. Cache): 3 KByte; Timed I/O Pins (PWM-Ch,CAPCOM): 14; Type of Memory: Flash; Type of Serial I/O Interfaces: UART(2), SCC(1); DatasheetVersion: Rev. 1.5; PackageVersion: Jun-08; PackageReference: PG-LQFP-64-4; PackageDescription: 64-Pin Plastic (Green) Low Profile Quad Flat Package, 10 x 10 mm Body, 0.5 mm Pitch; Supplier 1: Digi-Key; Supplier Part Number 1: SAF-XC878CM-13FFI 3V3 AC-ND; E2PROM Emulation (Data-Flash): TRUE; Green: TRUE; Halogen-free: FLASE; Instruction width [bits]: 8; Max Clock Frequency: 26.7 MHz; On-chip clock generation: TRUE; On-chip Voltage Regulator: TRUE; Oscillator Watchdog: TRUE; Program Memory: 52 KByte; Timer / Counter: 4; Watchdog Timer: TRUE; Mounting Technology: Surface Mount; ComponentLink1Description: Manufacturer URL; ComponentLink1URL: http://www.infineon.com/; ComponentLink2Description: Datasheet; ComponentLink2URL: http://www.infineon.com/dgdl/Microcontroller-XC87x-Data-Sheet-V15-infineon.pdf?folderId=db3a304412b407950112b40c497b0af6&fileId=db3a30432239cccd01231293d56908b1; ComponentLink3Description: Package Specification; ComponentLink3URL: http://www.infineon.com/dgdl/PG-LQFP-64-4%2C-5%2C-13-Package_Overview.pdf?folderId=db3a30431a5c32f2011a8ca6115b5cf2&fileId=db3a30431a5c32f2011a8cb1baf95d11
footprint INF-PG-LQFP-64-4_N (QFP, 64-Leads, Body 10x10mm, Pitch 0.5mm, IPC Medium Density)
footprint INF-PG-LQFP-64-4_L (QFP, 64-Leads, Body 10x10mm, Pitch 0.5mm, IPC High Density)
footprint INF-PG-LQFP-64-4_M (QFP, 64-Leads, Body 10x10mm, Pitch 0.5mm, IPC Low Density)
part A pins: 1 P0.5 (io), 2 P0.6 (io), 3 XTAL2 "External Oscillator Output", 4 XTAL1 "External Oscillator Input", 8 P5.0 (io), 9 P5.1 (io), 10 P1.6 (io), 11 P1.7 (io), 12 P5.2 (io), 13 P5.3 (io), 14 P5.4 (io), 15 P5.5 (io), 16 TMS (in) "JTAG Test Mode Select", 17 P0.0 (io), 18 P0.2 (io), 19 P5.6 (io), 20 P5.7 (io), 21 P0.1 (io), 22 AN0 (in) "Analog Input 0", 23 AN1 (in) "Analog Input 1", 24 AN2 (in) "Analog Input 2", 27 AN3 (in) "Analog Input 3", 28 AN4 (in) "Analog Input 4", 29 AN5 (in) "Analog Input 5", 30 AN6 (in) "Analog Input 6", 33 AN7 (in) "Analog Input 7", 34 P1.0 (io), 35 P1.1 (io), 36 P1.2 (io), 37 P1.3 (io), 38 P1.4 (io), 39 P1.5 (io), 40 P4.3 (io), 41 P3.6 (io), 42 P3.7 (io), 43 P3.0 (io), 44 P3.1 (io), 45 P4.4 (io), 46 P4.5 (io), 47 P4.6 (io), 48 P4.7 (io), 49 P3.2 (io), 50 P3.3 (io), 51 P3.4 (io), 52 P3.5 (io), 53 ~{RESET} (in) "Reset Input", 56 NC "No Connection", 57 TM (in) "Test Mode", 58 MBC (in) "Monitor & BootStrap Loader Control", 59 P4.0 (io), 60 P4.1 (io), 61 P4.2 (io), 62 P0.7 (io), 63 P0.3 (io), 64 P0.4 (io)
part B pins: 5 VSSC (power) "Core Supply Ground", 6 VDDC (power) "Core Supply Monitor (2.5 V)", 7 VDDP (power) "I/O Port Supply", 25 VDDP (power) "I/O Port Supply", 26 VSSP (power) "I/O Ground", 31 VAGND (power) "ADC Reference Ground", 32 VAREF (power) "ADC Reference Voltage", 54 VSSP (power) "I/O Ground", 55 VDDP (power) "I/O Port Supply"

## SAF-XC878CM-13FFI 5V AC
designator U?
26.7 MHz XC800-Industrail MCU with 52 KByte Program Memory, 3 KByte SRAM, 5 V, -40 to 85 degC, PG-LQFP-64, Reel, Green; Manufacturer: Infineon; PartNumber: SAF-XC878CM-13FFI 5V AC; A / D input lines (incl. FADC): 8; CAN Nodes: 2; Digital I/O Lines: 40; DMA Channels: 0; DSP functionality (e.g MDU/MAC): TRUE; I/O Operation Voltages: 5 V; LIN BSL loader (for fast Flash programming): FALSE; Number of ADC Modules: 1; Power Modes: 4; Serial I/O Interfaces: 3; SRAM (incl. Cache): 3 KByte; Timed I/O Pins (PWM-Ch,CAPCOM): 14; Type of Memory: Flash; Type of Serial I/O Interfaces: UART(2), SCC(1); DatasheetVersion: Rev. 1.5; PackageVersion: Jun-08; PackageReference: PG-LQFP-64-4; PackageDescription: 64-Pin Plastic (Green) Low Profile Quad Flat Package, 10 x 10 mm Body, 0.5 mm Pitch; Supplier 1: Digi-Key; Supplier Part Number 1: SAF-XC878CM-13FFI 5V AC-ND; E2PROM Emulation (Data-Flash): TRUE; Green: TRUE; Halogen-free: FLASE; Instruction width [bits]: 8; Max Clock Frequency: 26.7 MHz; On-chip clock generation: TRUE; On-chip Voltage Regulator: TRUE; Oscillator Watchdog: TRUE; Packing: Reel; Program Memory: 52 KByte; Timer / Counter: 4; Watchdog Timer: TRUE; Mounting Technology: Surface Mount; ComponentLink1Description: Manufacturer URL; ComponentLink1URL: http://www.infineon.com/; ComponentLink2Description: Datasheet; ComponentLink2URL: http://www.infineon.com/dgdl/Microcontroller-XC87x-Data-Sheet-V15-infineon.pdf?folderId=db3a304412b407950112b40c497b0af6&fileId=db3a30432239cccd01231293d56908b1; ComponentLink3Description: Package Specification; ComponentLink3URL: http://www.infineon.com/dgdl/PG-LQFP-64-4%2C-5%2C-13-Package_Overview.pdf?folderId=db3a30431a5c32f2011a8ca6115b5cf2&fileId=db3a30431a5c32f2011a8cb1baf95d11
footprint INF-PG-LQFP-64-4_N (QFP, 64-Leads, Body 10x10mm, Pitch 0.5mm, IPC Medium Density)
footprint INF-PG-LQFP-64-4_L (QFP, 64-Leads, Body 10x10mm, Pitch 0.5mm, IPC High Density)
footprint INF-PG-LQFP-64-4_M (QFP, 64-Leads, Body 10x10mm, Pitch 0.5mm, IPC Low Density)
part A pins: 1 P0.5 (io), 2 P0.6 (io), 3 XTAL2 "External Oscillator Output", 4 XTAL1 "External Oscillator Input", 8 P5.0 (io), 9 P5.1 (io), 10 P1.6 (io), 11 P1.7 (io), 12 P5.2 (io), 13 P5.3 (io), 14 P5.4 (io), 15 P5.5 (io), 16 TMS (in) "JTAG Test Mode Select", 17 P0.0 (io), 18 P0.2 (io), 19 P5.6 (io), 20 P5.7 (io), 21 P0.1 (io), 22 AN0 (in) "Analog Input 0", 23 AN1 (in) "Analog Input 1", 24 AN2 (in) "Analog Input 2", 27 AN3 (in) "Analog Input 3", 28 AN4 (in) "Analog Input 4", 29 AN5 (in) "Analog Input 5", 30 AN6 (in) "Analog Input 6", 33 AN7 (in) "Analog Input 7", 34 P1.0 (io), 35 P1.1 (io), 36 P1.2 (io), 37 P1.3 (io), 38 P1.4 (io), 39 P1.5 (io), 40 P4.3 (io), 41 P3.6 (io), 42 P3.7 (io), 43 P3.0 (io), 44 P3.1 (io), 45 P4.4 (io), 46 P4.5 (io), 47 P4.6 (io), 48 P4.7 (io), 49 P3.2 (io), 50 P3.3 (io), 51 P3.4 (io), 52 P3.5 (io), 53 ~{RESET} (in) "Reset Input", 56 NC "No Connection", 57 TM (in) "Test Mode", 58 MBC (in) "Monitor & BootStrap Loader Control", 59 P4.0 (io), 60 P4.1 (io), 61 P4.2 (io), 62 P0.7 (io), 63 P0.3 (io), 64 P0.4 (io)
part B pins: 5 VSSC (power) "Core Supply Ground", 6 VDDC (power) "Core Supply Monitor (2.5 V)", 7 VDDP (power) "I/O Port Supply", 25 VDDP (power) "I/O Port Supply", 26 VSSP (power) "I/O Ground", 31 VAGND (power) "ADC Reference Ground", 32 VAREF (power) "ADC Reference Voltage", 54 VSSP (power) "I/O Ground", 55 VDDP (power) "I/O Port Supply"

## SAF-XC878CM-16FFI 3V3 AC
designator U?
26.7 MHz XC800-Industrail MCU with 64 KByte Program Memory, 3 KByte SRAM, 3.3 V, -40 to 85 degC, PG-LQFP-64, Reel, Green; Manufacturer: Infineon; PartNumber: SAF-XC878CM-16FFI 3V3 AC; A / D input lines (incl. FADC): 8; CAN Nodes: 2; Digital I/O Lines: 40; DMA Channels: 0; DSP functionality (e.g MDU/MAC): TRUE; I/O Operation Voltages: 3.3 V; LIN BSL loader (for fast Flash programming): FALSE; Number of ADC Modules: 1; Power Modes: 4; Serial I/O Interfaces: 3; SRAM (incl. Cache): 3 KByte; Timed I/O Pins (PWM-Ch,CAPCOM): 14; Type of Memory: Flash; Type of Serial I/O Interfaces: UART(2), SCC(1); DatasheetVersion: Rev. 1.5; PackageVersion: Jun-08; PackageReference: PG-LQFP-64-4; PackageDescription: 64-Pin Plastic (Green) Low Profile Quad Flat Package, 10 x 10 mm Body, 0.5 mm Pitch; Supplier 1: Digi-Key; Supplier Part Number 1: SAF-XC878CM-16FFI 3V3 AC-ND; E2PROM Emulation (Data-Flash): TRUE; Green: TRUE; Halogen-free: TRUE; Instruction width [bits]: 8; Max Clock Frequency: 26.7 MHz; On-chip clock generation: TRUE; On-chip Voltage Regulator: TRUE; Oscillator Watchdog: TRUE; Packing: Reel; Program Memory: 64 KByte; Timer / Counter: 4; Watchdog Timer: TRUE; Mounting Technology: Surface Mount; ComponentLink1Description: Manufacturer URL; ComponentLink1URL: http://www.infineon.com/; ComponentLink2Description: Datasheet; ComponentLink2URL: http://www.infineon.com/dgdl/Microcontroller-XC87x-Data-Sheet-V15-infineon.pdf?folderId=db3a304412b407950112b40c497b0af6&fileId=db3a30432239cccd01231293d56908b1; ComponentLink3Description: Package Specification; ComponentLink3URL: http://www.infineon.com/dgdl/PG-LQFP-64-4%2C-5%2C-13-Package_Overview.pdf?folderId=db3a30431a5c32f2011a8ca6115b5cf2&fileId=db3a30431a5c32f2011a8cb1baf95d11
footprint INF-PG-LQFP-64-4_N (QFP, 64-Leads, Body 10x10mm, Pitch 0.5mm, IPC Medium Density)
footprint INF-PG-LQFP-64-4_L (QFP, 64-Leads, Body 10x10mm, Pitch 0.5mm, IPC High Density)
footprint INF-PG-LQFP-64-4_M (QFP, 64-Leads, Body 10x10mm, Pitch 0.5mm, IPC Low Density)
part A pins: 1 P0.5 (io), 2 P0.6 (io), 3 XTAL2 "External Oscillator Output", 4 XTAL1 "External Oscillator Input", 8 P5.0 (io), 9 P5.1 (io), 10 P1.6 (io), 11 P1.7 (io), 12 P5.2 (io), 13 P5.3 (io), 14 P5.4 (io), 15 P5.5 (io), 16 TMS (in) "JTAG Test Mode Select", 17 P0.0 (io), 18 P0.2 (io), 19 P5.6 (io), 20 P5.7 (io), 21 P0.1 (io), 22 AN0 (in) "Analog Input 0", 23 AN1 (in) "Analog Input 1", 24 AN2 (in) "Analog Input 2", 27 AN3 (in) "Analog Input 3", 28 AN4 (in) "Analog Input 4", 29 AN5 (in) "Analog Input 5", 30 AN6 (in) "Analog Input 6", 33 AN7 (in) "Analog Input 7", 34 P1.0 (io), 35 P1.1 (io), 36 P1.2 (io), 37 P1.3 (io), 38 P1.4 (io), 39 P1.5 (io), 40 P4.3 (io), 41 P3.6 (io), 42 P3.7 (io), 43 P3.0 (io), 44 P3.1 (io), 45 P4.4 (io), 46 P4.5 (io), 47 P4.6 (io), 48 P4.7 (io), 49 P3.2 (io), 50 P3.3 (io), 51 P3.4 (io), 52 P3.5 (io), 53 ~{RESET} (in) "Reset Input", 56 NC "No Connection", 57 TM (in) "Test Mode", 58 MBC (in) "Monitor & BootStrap Loader Control", 59 P4.0 (io), 60 P4.1 (io), 61 P4.2 (io), 62 P0.7 (io), 63 P0.3 (io), 64 P0.4 (io)
part B pins: 5 VSSC (power) "Core Supply Ground", 6 VDDC (power) "Core Supply Monitor (2.5 V)", 7 VDDP (power) "I/O Port Supply", 25 VDDP (power) "I/O Port Supply", 26 VSSP (power) "I/O Ground", 31 VAGND (power) "ADC Reference Ground", 32 VAREF (power) "ADC Reference Voltage", 54 VSSP (power) "I/O Ground", 55 VDDP (power) "I/O Port Supply"

## SAF-XC878CM-16FFI 5V AC
designator U?
26.7 MHz XC800-Industrail MCU with 64 KByte Program Memory, 3 KByte SRAM, 5 V, -40 to 85 degC, PG-LQFP-64, Reel, Green; Manufacturer: Infineon; PartNumber: SAF-XC878CM-16FFI 5V AC; A / D input lines (incl. FADC): 8; CAN Nodes: 2; Digital I/O Lines: 40; DMA Channels: 0; DSP functionality (e.g MDU/MAC): TRUE; I/O Operation Voltages: 5 V; LIN BSL loader (for fast Flash programming): FALSE; Number of ADC Modules: 1; Power Modes: 4; Serial I/O Interfaces: 3; SRAM (incl. Cache): 3 KByte; Timed I/O Pins (PWM-Ch,CAPCOM): 14; Type of Memory: Flash; Type of Serial I/O Interfaces: UART(2), SCC(1); DatasheetVersion: Rev. 1.5; PackageVersion: Jun-08; PackageReference: PG-LQFP-64-4; PackageDescription: 64-Pin Plastic (Green) Low Profile Quad Flat Package, 10 x 10 mm Body, 0.5 mm Pitch; Supplier 1: Digi-Key; Supplier Part Number 1: SAF-XC878CM-16FFI 5V AC-ND; E2PROM Emulation (Data-Flash): TRUE; Green: TRUE; Halogen-free: TRUE; Instruction width [bits]: 8; Max Clock Frequency: 26.7 MHz; On-chip clock generation: TRUE; On-chip Voltage Regulator: TRUE; Oscillator Watchdog: TRUE; Packing: Reel; Program Memory: 64 KByte; Timer / Counter: 4; Watchdog Timer: TRUE; Mounting Technology: Surface Mount; ComponentLink1Description: Manufacturer URL; ComponentLink1URL: http://www.infineon.com/; ComponentLink2Description: Datasheet; ComponentLink2URL: http://www.infineon.com/dgdl/Microcontroller-XC87x-Data-Sheet-V15-infineon.pdf?folderId=db3a304412b407950112b40c497b0af6&fileId=db3a30432239cccd01231293d56908b1; ComponentLink3Description: Package Specification; ComponentLink3URL: http://www.infineon.com/dgdl/PG-LQFP-64-4%2C-5%2C-13-Package_Overview.pdf?folderId=db3a30431a5c32f2011a8ca6115b5cf2&fileId=db3a30431a5c32f2011a8cb1baf95d11
footprint INF-PG-LQFP-64-4_N (QFP, 64-Leads, Body 10x10mm, Pitch 0.5mm, IPC Medium Density)
footprint INF-PG-LQFP-64-4_L (QFP, 64-Leads, Body 10x10mm, Pitch 0.5mm, IPC High Density)
footprint INF-PG-LQFP-64-4_M (QFP, 64-Leads, Body 10x10mm, Pitch 0.5mm, IPC Low Density)
part A pins: 1 P0.5 (io), 2 P0.6 (io), 3 XTAL2 "External Oscillator Output", 4 XTAL1 "External Oscillator Input", 8 P5.0 (io), 9 P5.1 (io), 10 P1.6 (io), 11 P1.7 (io), 12 P5.2 (io), 13 P5.3 (io), 14 P5.4 (io), 15 P5.5 (io), 16 TMS (in) "JTAG Test Mode Select", 17 P0.0 (io), 18 P0.2 (io), 19 P5.6 (io), 20 P5.7 (io), 21 P0.1 (io), 22 AN0 (in) "Analog Input 0", 23 AN1 (in) "Analog Input 1", 24 AN2 (in) "Analog Input 2", 27 AN3 (in) "Analog Input 3", 28 AN4 (in) "Analog Input 4", 29 AN5 (in) "Analog Input 5", 30 AN6 (in) "Analog Input 6", 33 AN7 (in) "Analog Input 7", 34 P1.0 (io), 35 P1.1 (io), 36 P1.2 (io), 37 P1.3 (io), 38 P1.4 (io), 39 P1.5 (io), 40 P4.3 (io), 41 P3.6 (io), 42 P3.7 (io), 43 P3.0 (io), 44 P3.1 (io), 45 P4.4 (io), 46 P4.5 (io), 47 P4.6 (io), 48 P4.7 (io), 49 P3.2 (io), 50 P3.3 (io), 51 P3.4 (io), 52 P3.5 (io), 53 ~{RESET} (in) "Reset Input", 56 NC "No Connection", 57 TM (in) "Test Mode", 58 MBC (in) "Monitor & BootStrap Loader Control", 59 P4.0 (io), 60 P4.1 (io), 61 P4.2 (io), 62 P0.7 (io), 63 P0.3 (io), 64 P0.4 (io)
part B pins: 5 VSSC (power) "Core Supply Ground", 6 VDDC (power) "Core Supply Monitor (2.5 V)", 7 VDDP (power) "I/O Port Supply", 25 VDDP (power) "I/O Port Supply", 26 VSSP (power) "I/O Ground", 31 VAGND (power) "ADC Reference Ground", 32 VAREF (power) "ADC Reference Voltage", 54 VSSP (power) "I/O Ground", 55 VDDP (power) "I/O Port Supply"